# Altium footprint library CommonPcbLib.PcbLib: 17 footprints (part 1 of 2)
Each footprint in its own frame and in the unit in brackets; x right, y up, seen from the top. Pads: shape width x height; smd on the part's side, far side on the other; paste and mask are expansions set on the pad; w line width, h text height; cw(c..) or ccw(c..) is an arc to the next point about the centre after c.
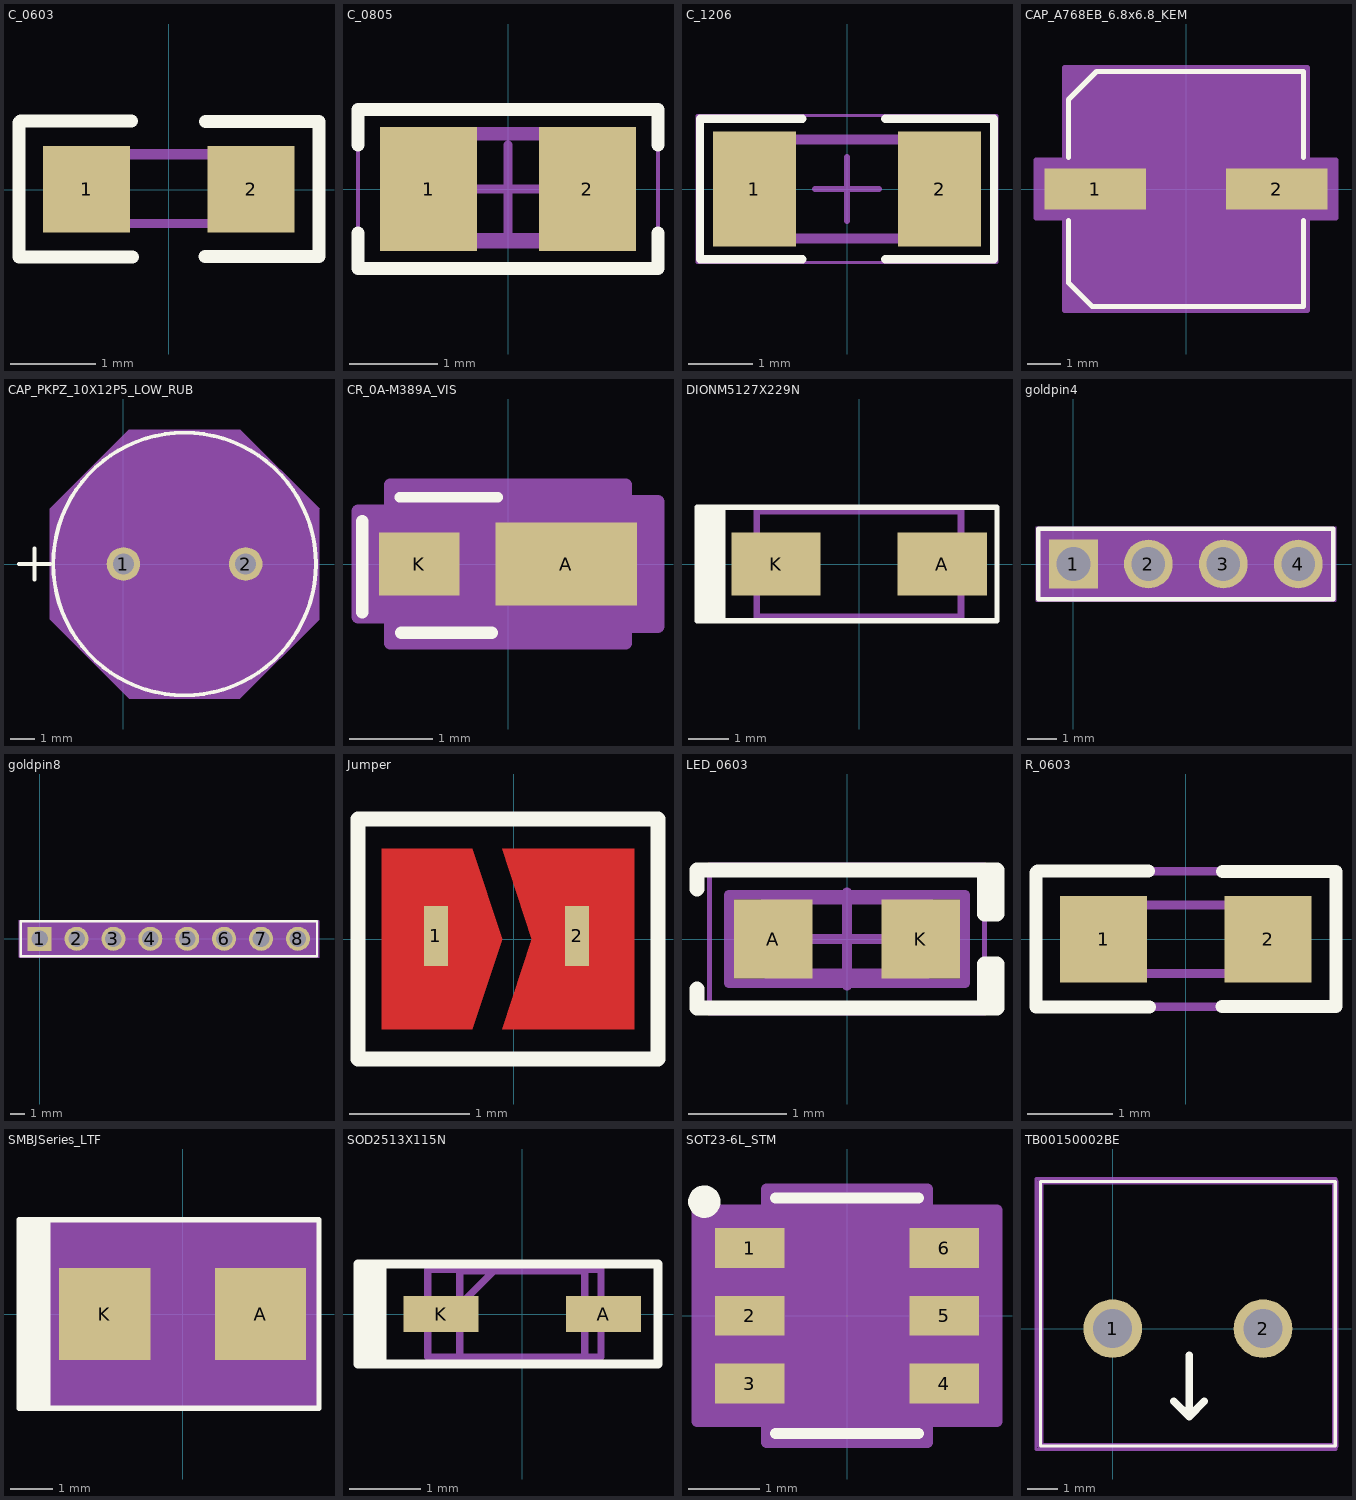
[diagram p0: the footprints below, top view; thin cyan lines are the x and y axes]

## C_0603 [mil]
pads (2):
  rect 40x40 smd: 1(-37.89,0.14) 2(37.89,0.14)
Top Overlay:
  lines w6: -68.99,-30.89 -68.99,30.89 ; -68.9,-30.98 -16.76,-30.98 ; -68.36,31.53 -17.13,31.53 ; 16.59,-30.84 69.1,-30.84 69.1,31.36 16.97,31.36
Top Assembly (Mech2):
  lines w3.94: -38.39,-15.75 36.42,-15.75 36.42,16.73 -38.39,16.73 -38.39,-15.75
  text ".Designator" at -34.37,-12.72 h39.37
Top Component Outline:
  lines w4: -31.49,-15.6 -31.49,15.89 31.5,15.89 31.5,-15.6 -31.49,-15.6
3D body "User Library-ECHU_PPS.step": height 27.56, standoff 0, extent -31.49,-15.6 31.5,15.89

## C_0805 [mm] "Chip Capacitor, 2-Leads, Body 2.00x1.20mm"
height 1.15
pads (2):
  rect 1.1x1.4 smd: 1(-0.9,0) 2(0.9,0)
Top Overlay:
  lines w0.15: -1.7,-0.5 -1.7,-0.9 1.7,-0.9 1.7,-0.5 ; -1.7,0.5 -1.7,0.9 1.7,0.9 1.7,0.5
Top Assembly (Mech2):
  lines w0.1: -1.148,-0.548 1.173,-0.548 1.173,0.598 -1.148,0.598 -1.148,-0.548
  text ".Designator" at -1.05,-0.464 h1.52
Top Component Outline:
  lines w0.1: -1,-0.625 0.975,-0.625 0.975,0.65 -1,0.65 -1,-0.625
Mechanical 15:
  lines w0.05: -1.7,-0.95 1.7,-0.95 1.7,0.95 -1.7,0.95 -1.7,-0.95
  lines w0.1: -0.5,0 0.5,0 ; 0,-0.5 0,0.5
3D body "0805 cap.STEP": height 1.26, standoff -0.02, extent -1,-0.637 1,0.637

## C_1206 [mm] "Chip Capacitor, 2-Leads, Body 3.25x1.60mm"
height 1
pads (2):
  rect 1.3x1.8 smd: 1(-1.45,0) 2(1.45,0)
Top Overlay:
  lines w0.127: -0.7,-1.1 -2.3,-1.1 -2.3,1.1 -0.7,1.1 ; 0.6,-1.1 2.3,-1.1 2.3,1.1 0.6,1.1
Top Assembly (Mech2):
  lines w0.1: -1.798,-0.748 1.798,-0.748 1.798,0.748 -1.798,0.748 -1.798,-0.748
  text ".Designator" at -1.798,-0.462 h1.52
Top Component Outline:
  lines w0.1: -1.575,-0.8 -1.575,0.8 1.6,0.8 1.6,-0.8 -1.575,-0.8
Mechanical 15:
  lines w0.05: -2.35,-1.15 -2.35,1.15 2.35,1.15 2.35,-1.15 -2.35,-1.15
  lines w0.1: -0.5,0 0.5,0 ; 0,-0.5 0,0.5
3D body "CAP 1206-1mm.STEP": height 1, standoff 0, extent -1.6,-0.8 1.6,0.8

## CAP_A768EB_6.8x6.8_KEM [mil]
pads (2):
  rect 120x48 smd paste+0: 1(-107.5,0) 2(107.5,0)
Top Overlay:
  lines w6: -139,-37.1 -139,-111 -111,-139 139,-139 139,-37.1 ; -139,37.1 -139,106 -130.75,114.25 -114.25,130.75 -106,139 139,139 139,37.1
Top Assembly (Mech2):
  lines w3.94: -135.75,-138.7 138.7,-138.7 138.7,139.69 -135.75,139.69 -135.75,-138.7
  text ".Designator" at -110.24,-11.81 h50
Top Component Outline:
  lines w1: -134,-67 -67,-134 ; -134,67 -67,134 ; -134,-134 134,-134 134,134 -134,134 -134,-134
Mechanical 15:
  region: -144,-34 -177.5,-34 -177.5,34 -144,34 -144,144 144,144 144,34 177.5,34 177.5,-34 144,-34 144,-144 -144,-144
  lines w6: -177.5,-34 -177.5,34 -144,34 -144,144 144,144 144,34 177.5,34 177.5,-34 144,-34 144,-144 -144,-144 -144,-34 -177.5,-34
3D body "CAP_A768EB_68x68_KEM.step": height 238.11, standoff 0, extent -147.48,-134.02 147.48,134.02

## CAP_PKPZ_10X12P5_LOW_RUB [mil]
pads (2):
  round 54 / inner round 60 / far side round 54 hole 34 paste-99999: 1(0,0) 2(196.85,0)
Top Overlay:
  circle w6: c98.43,0 r211.5
  lines w6: -168.07,0 -118.07,0 ; -143.07,-25 -143.07,25
Top Assembly (Mech2):
  circle w10: c98.43,-0.98 r208.43
  text ".Designator" at 0,-10.83 h50
Top Component Outline:
  circle w0: c98.43,0 r206.5
  lines w1: -168.07,0 -118.07,0 ; -143.07,-25 -143.07,25
Mechanical 15:
  region: -118.07,89.15 9.28,216.5 187.57,216.5 314.93,89.15 314.93,-89.15 187.57,-216.5 9.28,-216.5 -118.07,-89.15
  lines w1: -118.07,-89.15 9.28,-216.5 187.57,-216.5 314.93,-89.15 314.93,89.15 187.57,216.5 9.28,216.5 -118.07,89.15 -118.07,-89.15
3D body "CAP_PKPZ_10X12P5_LOW_RUB.step": height 551.61, standoff -172.01, extent -108.07,-206.02 305.88,206.02

## CR_0A-M389A_VIS [mil]
pads (2):
  rect 66.87x39 smd paste+0 mask+0: A(27.44,0)
  rect 37.87x30 smd paste+0 mask+0: K(-41.94,0)
Top Overlay:
  lines w5: -51.18,31.5 -4.92,31.5
  lines w6: -68.9,-22.64 -68.9,20.25 ; -50.5,-32.5 -7.62,-32.5
Top Assembly (Mech2):
  lines w3.94: -51.1,-24.53 50.12,-24.53 50.12,24.53 -51.1,24.53 -51.1,-24.53
  text ".Designator" at -48.23,-13.78 h50
Top Component Outline:
  lines w1: -45.5,-13.75 -31.75,-27.5 ; -45.5,13.75 -31.75,27.5 ; -53,-15 -53,15 -45.5,15 -45.5,-15 -53,-15 ; -45.5,-27.5 45.5,-27.5 45.5,27.5 -45.5,27.5 -45.5,-27.5 ; 45.5,-19.5 45.5,19.5 53,19.5 53,-19.5 45.5,-19.5
  text "*" at -48,-25 h50
Mechanical 15:
  region: -55.5,-25 -70.87,-25 -70.87,25 -55.5,25 -55.5,37.5 55.5,37.5 55.5,29.5 70.87,29.5 70.87,-29.5 55.5,-29.5 55.5,-37.5 -55.5,-37.5
  lines w6: -70.87,-25 -70.87,25 -55.5,25 -55.5,37.5 55.5,37.5 55.5,29.5 70.87,29.5 70.87,-29.5 55.5,-29.5 55.5,-37.5 -55.5,-37.5 -55.5,-25 -70.87,-25
3D body "CR_0A-M389A_VIS.step": height 29.09, standoff 0, extent -52.99,-27.48 52.99,27.48

## DIONM5127X229N [mm]
pads (2):
  rect 2.2x1.55 smd: A(2.05,0) K(-2.05,0)
Top Overlay:
  rectangle: -4,-1.4 -3.3,1.4
  lines w0.127: -4,-1.4 3.4,-1.4 3.4,1.4 -4,1.4 -4,-1.4
Top Assembly (Mech2):
  lines w0.1: -2.498,-1.273 2.473,-1.273 2.473,1.273 -2.498,1.273 -2.498,-1.273
  text ".Designator" at -0.5,-0.287 h1
Mechanical 15:
  lines w0.1: -2.552,-1.332 2.552,-1.332 2.552,1.332 -2.552,1.332 -2.552,-1.332

## goldpin4 [mil]
pads (4):
  rect 65x65 hole 45 paste-99999: 1(0,0)
  round 65 hole 45 paste-99999: 2(100,0) 3(200,0) 4(300,0)
Top Overlay:
  lines w6: -47.24,-47.24 346.46,-47.24 346.46,47.24 -47.24,47.24 -47.24,-47.24
Top Assembly (Mech2):
  lines w3.94: -43.23,-43.23 345.39,-43.23 345.39,42.24 -43.23,42.24 -43.23,-43.23
  text ".Designator" at 43.31,-13.34 h60
Top Component Outline:
  circle w1: c0,-35 r10
  lines w1: -50,-50 -50,50 350,50 350,-50 -50,-50
Mechanical 15:
  region: 350.39,50 -47.24,50 -47.24,-50 350.39,-50
3D body "CONN_61300411121_WRE.step": height 350, standoff -200, extent -50,-50 350,50

## goldpin8 [mil]
pads (8):
  rect 65x65 hole 45 paste-99999: 1(0,0)
  round 65 hole 45 paste-99999: 2(100,0) 3(200,0) 4(300,0) 5(400,0) 6(500,0) 7(600,0) 8(700,0)
Top Overlay:
  lines w6: -51.18,-47.24 751.97,-47.24 751.97,47.24 -51.18,47.24 -51.18,-47.24
Top Assembly (Mech2):
  lines w3.94: -50.12,-44.21 749.92,-44.21 749.92,44.21 -50.12,44.21 -50.12,-44.21
  text ".Designator" at 162.4,-19.25 h60
Top Component Outline:
  circle w1: c0,-35 r10
  lines w1: -56,-50 756,-50 756,50 -56,50 -56,-50
Mechanical 15:
  region: 757.2,48.82 -55.12,48.82 -55.12,-51.18 757.2,-51.18
3D body "CONN8_61300811121_WRE.step": height 335.98, standoff -200, extent -50,-50 750,50

## Jumper [mm] "jumper on traces"
pads (2):
  rect 0.2x0.5 smd: 1(-0.65,0.025) 2(0.525,0.025)
Top Layer:
  region: 0.15,0 -0.1,0.75 1,0.75 1,-0.75 -0.1,-0.75
  region: -1.1,0.75 -0.35,0.75 -0.1,0 -0.35,-0.75 -1.1,-0.75
Top Overlay:
  lines w0.127: -1.3,-1 -1.3,1 1.2,1 1.2,-1 -1.3,-1

## LED_0603 [mm] "Chip Diode, 2-Leads, Body 1.60x0.80mm, IPC Medium Density"
height 0.45
pads (2):
  rect 0.8x0.8 smd: A(-0.75,0) K(0.75,0)
Top Overlay:
  lines w0.15: -1.524,-0.508 -1.524,-0.7 1.5,-0.7 ; -1.524,0.508 -1.524,0.556 -1.524,0.652 -1.524,0.7 1.5,0.7 ; 1.397,-0.7 1.524,-0.7 1.524,-0.254 1.397,-0.254 1.397,-0.7 ; 1.397,0.254 1.524,0.254 1.524,0.7 1.397,0.7 1.397,0.254
Top Assembly (Mech2):
  lines w0.1: -1.2,-0.45 1.2,-0.45 1.2,0.45 -1.2,0.45 -1.2,-0.45
  text ".Designator" at -0.9,-0.189 h1.52
Top Component Outline:
  lines w0.1: -0.825,-0.35 -0.825,0.4 0.825,0.4 0.825,-0.35 -0.825,-0.35
Mechanical 15:
  lines w0.05: -1.397,-0.75 -1.397,0.75 1.397,0.75 1.397,-0.75 -1.397,-0.75
  lines w0.1: -0.475,0 0.475,0 ; 0,-0.475 0,0.475
3D body "LED 0603 Lens RED.STEP": height 0.53, standoff 0.18, extent -0.55,-0.4 0.55,0.4
3D body "LED 0603 Base RED.STEP": height 0.28, standoff 0, extent -0.8,-0.4 0.8,0.4

## R_0603 [mil]
pads (2):
  rect 40x40 smd: 1(-37.89,0) 2(37.89,0)
Top Overlay:
  lines w6: -68.99,-31.03 -68.99,30.75 ; -68.9,-31.13 -16.76,-31.13 ; -68.36,31.38 -17.13,31.38 ; 16.59,-30.98 69.1,-30.98 69.1,31.22 16.97,31.22
Top Assembly (Mech2):
  lines w3.94: -68.9,-31.13 69.1,-31.13 69.1,31.38 -68.9,31.38 -68.9,-31.13
  text ".Designator" at -54.13,-17.28 h60
Top Component Outline:
  lines w4: -31.49,-15.74 31.5,-15.74 31.5,15.75 -31.49,15.75 -31.49,-15.74
3D body "User Library-RES_1609-0603.step": height 22.05, standoff 0, extent -33.46,-16.73 33.47,14.77

## SMBJSeries_LTF [mil]
pads (2):
  rect 85.59x86 smd paste+0: A(73.11,0) K(-73.11,0)
Top Overlay:
  rectangle: -153.54,-88.58 -124.02,86.61
  lines w5: -153.54,-88.58 118.11,-88.58 127.95,-88.58 127.95,88.58 125.98,88.58 -153.54,88.58 -153.54,-88.58
Top Assembly (Mech2):
  lines w3.94: -122.13,-81.69 122.05,-81.69 122.05,81.77 -122.13,81.77 -122.13,-81.69
  text ".Designator" at -77.76,-7.87 h50
Top Component Outline:
  lines w1: -140,-25 -140,25 ; -110,-77.5 -110,77.5 110,77.5 110,-77.5 -110,-77.5
Mechanical 15:
  region: -125.91,-53 -125.91,53 -125.91,87.5 120,87.5 125.91,87.5 125.91,-87.5 120,-87.5 -125.91,-87.5
3D body "SMBJSeries_LTF.step": height 97.99, standoff 0, extent -110,-77.48 110,77.48

## SOD2513X115N [mm]
pads (2):
  rect 1.05x0.5 smd: A(1.138,0) K(-1.138,0)
Top Overlay:
  rectangle: -2.3,-0.7 -1.9,0.7
  lines w0.127: -2.1,-0.175 -2.1,0.35 ; -2.3,-0.7 -2.3,-0.55 -2.3,0.025 -2.3,0.55 -2.3,0.7 1.9,0.7 1.9,-0.7 -2.3,-0.7
Top Assembly (Mech2):
  lines w0.1: -1.323,-0.6 1.1,-0.6 1.1,0.623 -1.323,0.623 -1.323,-0.6
  text ".Designator" at -1.3,-0.539 h1.52
Mechanical 15:
  lines w0.1: -0.875,0.125 -0.35,0.65 ; -0.875,-0.65 0.875,-0.65 0.875,0.6 -0.875,0.6 -0.875,-0.65

## SOT23-6L_STM [mm]
pads (6):
  rect 0.972x0.558 smd paste+0: 1(-1.362,0.95) 2(-1.362,0) 3(-1.362,-0.95) 4(1.362,-0.95) 5(1.362,0) 6(1.362,0.95)
Top Overlay:
  circle w0.254: c-2,1.6 r0.1
  lines w0.152: -1.003,-1.651 1.003,-1.651 ; -1.003,1.651 1.003,1.651
Top Assembly (Mech2):
  lines w0.1: -1.873,-1.223 1.848,-1.223 1.848,1.248 -1.873,1.248 -1.873,-1.223
  text ".Designator" at -0.9,-0.3 h1.27
Top Component Outline:
  lines w0: -0.305,1.524 ccw(c0,1.524) 0.305,1.524
  lines w0.025: -1.499,-1.204 -0.876,-1.204 -0.876,-0.696 -1.499,-0.696 -1.499,-1.204 ; -1.499,-0.254 -0.876,-0.254 -0.876,0.254 -1.499,0.254 -1.499,-0.254 ; -1.499,0.696 -0.876,0.696 -0.876,1.204 -1.499,1.204 -1.499,0.696 ; -0.876,-1.524 0.876,-1.524 0.876,1.524 -0.876,1.524 -0.876,-1.524 ; 0.876,-1.204 1.499,-1.204 1.499,-0.696 0.876,-0.696 0.876,-1.204 ; 0.876,-0.254 1.499,-0.254 1.499,0.254 0.876,0.254 0.876,-0.254 ; 0.876,0.696 1.499,0.696 1.499,1.204 0.876,1.204 0.876,0.696
  text "*" at -0.813,0.178 h1.27
Mechanical 15:
  region: -1.13,-1.483 -2.103,-1.483 -2.103,1.483 -1.13,1.483 -1.13,1.778 1.13,1.778 1.13,1.483 2.103,1.483 2.103,-1.483 1.13,-1.483 1.13,-1.778 -1.13,-1.778
  lines w0.152: -2.103,-1.483 -1.13,-1.483 -1.13,-1.778 1.13,-1.778 1.13,-1.483 2.103,-1.483 2.103,1.483 1.13,1.483 1.13,1.778 -1.13,1.778 -1.13,1.483 -2.103,1.483 -2.103,-1.483
3D body "SOT23-6L_STM.step": height 1.45, standoff 0, extent -1.499,-1.524 1.499,1.524

## TB00150002BE [mm]
pads (2):
  round 1.95 hole 1.3: 1(0,0) 2(5,0)
Top Overlay:
  lines w0.1: -2.4,-3.9 7.4,-3.9 7.4,4.9 -2.4,4.9 -2.4,-3.9
  lines w0.254: 2.032,-2.413 2.54,-2.921 ; 2.54,-0.889 2.54,-2.921 ; 3.048,-2.413 2.54,-2.921
Top Assembly (Mech2):
  lines w0.1: -2.448,-3.898 7.348,-3.898 7.348,4.898 -2.448,4.898 -2.448,-3.898
  text ".Designator" at -0.9,2.586 h1.52
Top Component Outline:
  lines w0.1: -2.55,-4.025 7.425,-4.025 7.425,5 -2.55,5 -2.55,-4.025
Mechanical 15:
  lines w0.2: -2.4,-3.9 -2.4,4.9 7.4,4.9 7.4,-3.9 -2.4,-3.9
3D body "TB001-500-02BE--3DModel-STEP-1.STEP": height 12.5, standoff -4.4, extent -3.025,-3.8 7.475,5.2